# Altium footprint library SOP18P127_1153X1034X250L84X43N.PcbLib: 1 footprints
Each footprint in its own frame and in the unit in brackets; x right, y up, seen from the top. Pads: shape width x height; smd on the part's side, far side on the other; paste and mask are expansions set on the pad; w line width, h text height; cw(c..) or ccw(c..) is an arc to the next point about the centre after c.
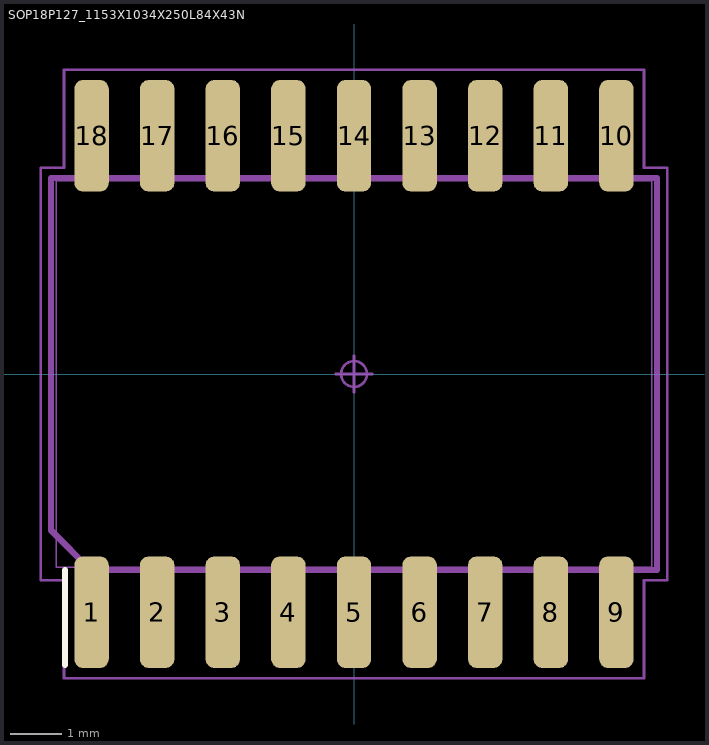
[diagram p0: the footprint, top view; thin cyan lines are the x and y axes]

## SOP18P127_1153X1034X250L84X43N [mil] "Small Outline Pkg (SOIC, SOP), 1.27 mm pitch; 18 pin, 11.53 mm L X 7.49 mm W X 2.64 mm H Body"
height 103.94
pads (18):
  rrect50% 26.26x84.96 smd: 1(-200,-181.54) 2(-150,-181.54) 3(-100,-181.54) 4(-50,-181.54) 5(0,-181.54) 6(50,-181.54) 7(100,-181.54) 8(150,-181.54) 9(200,-181.54) 10(200,181.54) 11(150,181.54) 12(100,181.54) 13(50,181.54) 14(0,181.54) 15(-50,181.54) 16(-100,181.54) 17(-150,181.54) 18(-200,181.54)
Top Overlay:
  lines w4.72: -220.24,-221.65 -220.24,-149.41
Mechanical 3:
  lines w4.72: -230.91,-119.09 -230.91,149.41 230.91,149.41 230.91,-149.41 -200.59,-149.41 -230.91,-119.09
Mechanical 5:
  lines w0.98: -226.97,-147.44 226.97,-147.44 226.97,147.44 -226.97,147.44 -226.97,-147.44 ; -208.56,-203.54 -208.56,-170.47 -191.44,-170.47 -191.44,-203.54 -208.56,-203.54 ; -208.56,170.47 -208.56,203.54 -191.44,203.54 -191.44,170.47 -208.56,170.47 ; -158.56,-203.54 -158.56,-170.47 -141.44,-170.47 -141.44,-203.54 -158.56,-203.54 ; -158.56,170.47 -158.56,203.54 -141.44,203.54 -141.44,170.47 -158.56,170.47 ; -108.56,-203.54 -108.56,-170.47 -91.44,-170.47 -91.44,-203.54 -108.56,-203.54 ; -108.56,170.47 -108.56,203.54 -91.44,203.54 -91.44,170.47 -108.56,170.47 ; -58.56,-203.54 -58.56,-170.47 -41.44,-170.47 -41.44,-203.54 -58.56,-203.54 ; -58.56,170.47 -58.56,203.54 -41.44,203.54 -41.44,170.47 -58.56,170.47 ; -8.56,-203.54 -8.56,-170.47 8.56,-170.47 8.56,-203.54 -8.56,-203.54 ; -8.56,170.47 -8.56,203.54 8.56,203.54 8.56,170.47 -8.56,170.47 ; 41.44,-203.54 41.44,-170.47 58.56,-170.47 58.56,-203.54 41.44,-203.54 ; 41.44,170.47 41.44,203.54 58.56,203.54 58.56,170.47 41.44,170.47 ; 91.44,-203.54 91.44,-170.47 108.56,-170.47 108.56,-203.54 91.44,-203.54 ; 91.44,170.47 91.44,203.54 108.56,203.54 108.56,170.47 91.44,170.47 ; 141.44,-203.54 141.44,-170.47 158.56,-170.47 158.56,-203.54 141.44,-203.54 ; 141.44,170.47 141.44,203.54 158.56,203.54 158.56,170.47 141.44,170.47 ; 191.44,-203.54 191.44,-170.47 208.56,-170.47 208.56,-203.54 191.44,-203.54 ; 191.44,170.47 191.44,203.54 208.56,203.54 208.56,170.47 191.44,170.47
Mechanical 7:
  circle w1.97: c0,0 r9.84
  lines w1.97: -13.78,0 13.78,0 ; 0,-13.78 0,13.78 ; -238.78,-157.28 -221.02,-157.28 -221.02,-231.89 221.02,-231.89 221.02,-157.28 238.78,-157.28 238.78,157.28 221.02,157.28 221.02,231.89 -221.02,231.89 -221.02,157.28 -238.78,157.28 -238.78,-157.28
Mechanical 9:
  text "'.Designator'" at -229,-10.67 h40
3D body "SOP18P127_1153X1034X250L84X43.STEP": height 103.94, standoff 0, extent -226.97,-203.54 226.97,203.54
3D body: height 921.26, standoff -196.85, extent -238.78,-231.89 238.78,231.89